# Altium footprint library 串口mcu板.PcbLib: 20 footprints (part 1 of 2)
Each footprint in its own frame and in the unit in brackets; x right, y up, seen from the top. Pads: shape width x height; smd on the part's side, far side on the other; paste and mask are expansions set on the pad; w line width, h text height; cw(c..) or ccw(c..) is an arc to the next point about the centre after c.
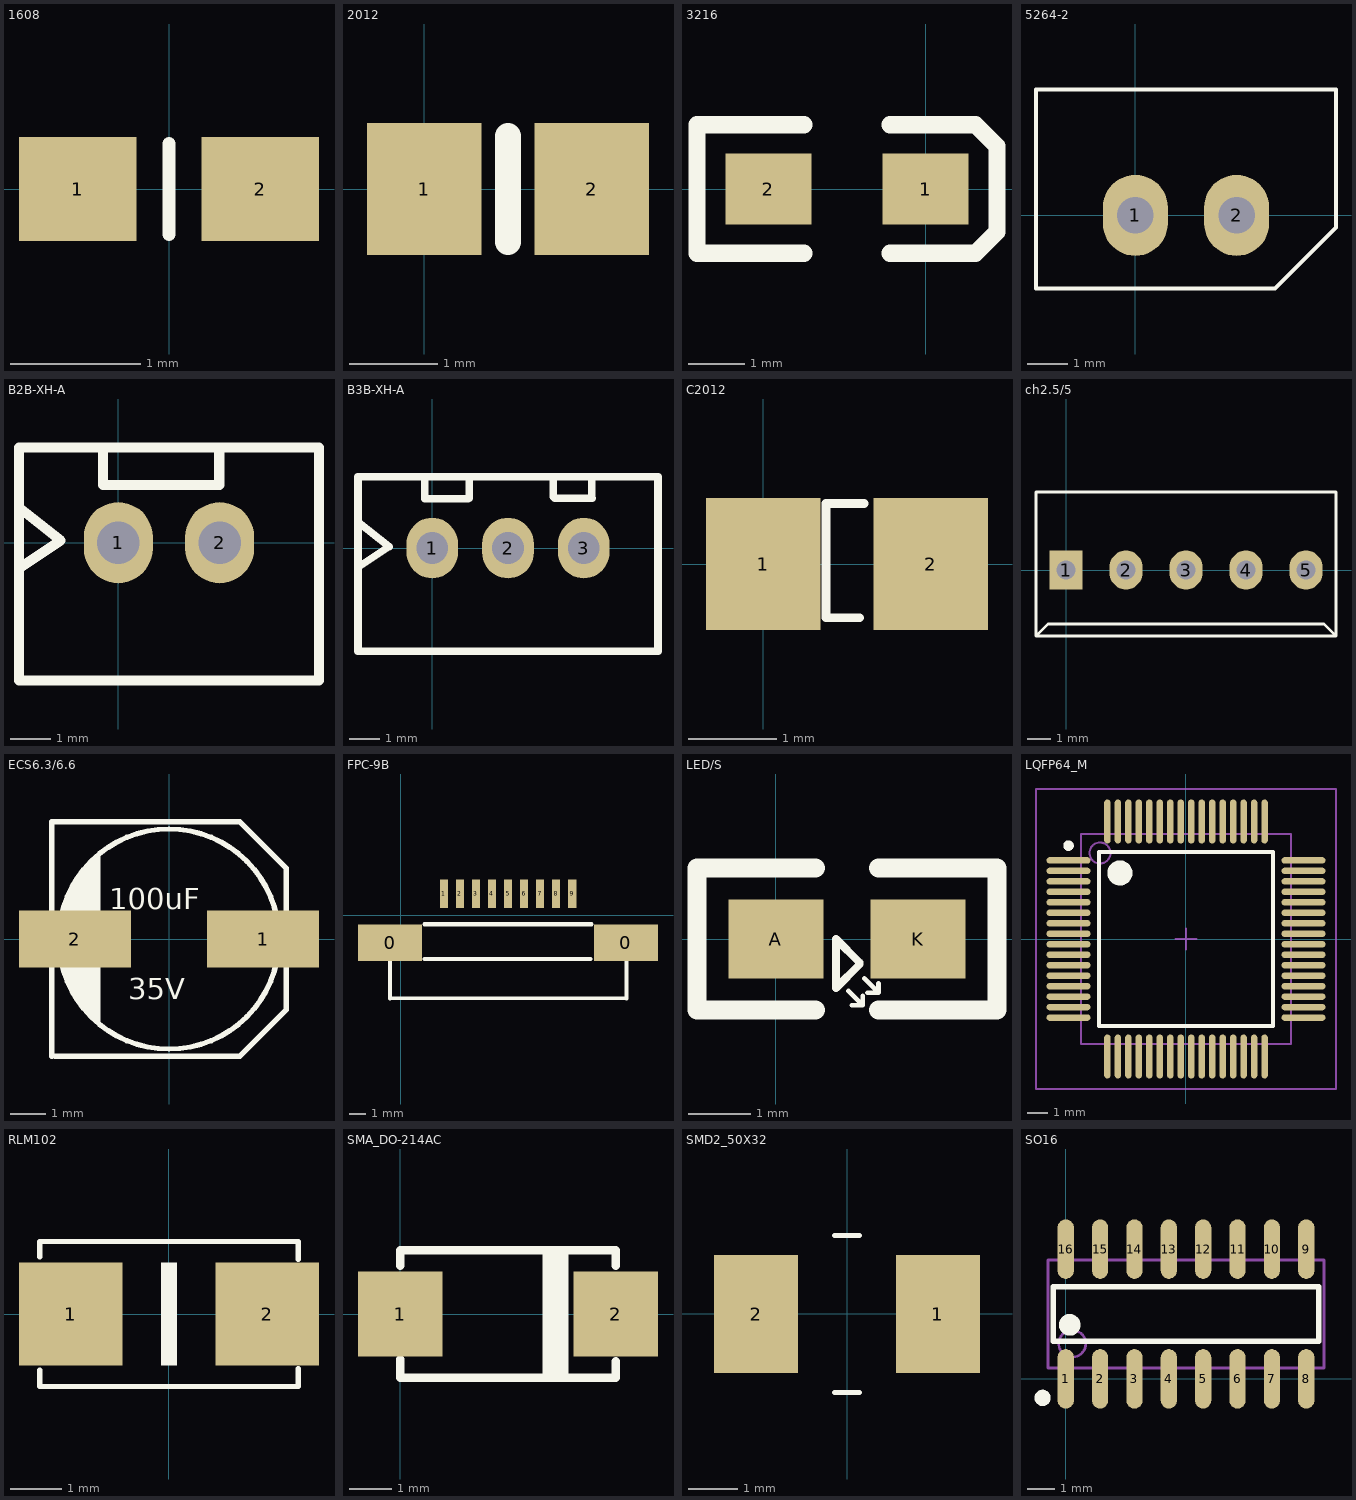
[diagram p0: the footprints below, top view; thin cyan lines are the x and y axes]

## 1608 [mm]
height 20
pads (2):
  rect 0.9x0.8 smd: 1(-0.7,0) 2(0.7,0)
Top Overlay:
  lines w0.1: 0,-0.35 0,0.35
3D body: height 0.45, standoff 0, extent -0.75,-0.394 0.75,0.406

## 2012 [mm]
pads (2):
  rect 1.3x1.5 smd: 1(0,0) 2(1.9,0)
Top Overlay:
  lines w0.3: 0.95,-0.6 0.95,0.6
3D body: height 0.45, standoff 0, extent -0.051,-0.625 1.949,0.625

## 3216 [mil]
height 43.31
pads (2):
  rect 60x50 smd: 1(0,0) 2(-110,0)
Top Overlay:
  lines w12: -85,-45 -160,-45 -160,45 -85,45 ; -25,-45 35,-45 50,-30 50,30 35,45 -25,45
3D body: height 62.99, standoff 0, extent -116.99,-30 8.99,33

## 5264-2 [mm]
height 20
pads (2):
  oval 1.6x2 hole 0.9: 1(0,0) 2(2.5,0)
Top Overlay:
  lines w0.1: 2.702,-1.8 3.45,-1.8 ; 3.45,-1.8 4.95,-0.3 4.95,3.1 -2.45,3.1 -2.45,-1.8 3.45,-1.8
3D body: height 5.95, standoff -3.45, extent -2.456,-1.821 4.944,3.079

## B2B-XH-A [mm]
height 20
pads (2):
  oval 1.7x2 hole 1.05: 1(0,0) 2(2.5,0)
Top Overlay:
  lines w0.25: -2.45,-0.635 -1.422,0.051 -2.45,0.864 ; -0.381,2.35 -0.381,1.422 2.489,1.422 2.489,2.35 ; -2.45,-3.4 4.95,-3.4 4.95,2.35 -2.45,2.35 -2.45,-3.4

## B3B-XH-A [mm]
height 20
pads (3):
  oval 1.7x2 hole 1.05: 1(0,0) 2(2.5,0) 3(5,0)
Top Overlay:
  lines w0.25: -2.45,-0.635 -1.422,0.051 -2.45,0.864 ; -0.254,2.35 -0.254,1.626 1.194,1.626 1.219,1.651 1.219,2.261 ; 3.988,2.235 3.988,1.702 4.039,1.651 5.283,1.651 5.258,1.676 5.258,2.235 ; -2.45,-3.4 -2.45,2.35 7.45,2.35 7.45,-3.4 -2.45,-3.4

## C2012 [mm]
pads (2):
  rect 1.3x1.5 smd: 1(0,0) 2(1.9,0)
Top Overlay:
  lines w0.1: 1.092,-0.61 0.711,-0.61 0.711,0.59 0.711,0.686 1.143,0.686
3D body: height 0.5, standoff 0, extent -0.06,-0.564 1.94,0.686

## ch2.5/5 [mil]
pads (5):
  rect 55x65 hole 32: 1(0,0)
  oval 55x65 hole 32: 2(100,0) 3(200,0) 4(300,0) 5(400,0)
Top Overlay:
  lines w5: -50,-110 450,-110 ; -50,-110 -50,130 450,130 450,-110 ; -50,-110 -30,-90 430,-90 450,-110
3D body: height 393.7, standoff 0, extent -45,-110 450,-90
3D body: height 118.11, standoff 0, extent -50,-110 450,130
3D body: height 393.7, standoff 0, extent 380.47,-19.64 419.69,19.65
3D body: height 393.7, standoff 0, extent 280.47,-19.64 319.69,19.65
3D body: height 393.7, standoff 0, extent 180.47,-19.64 219.69,19.65
3D body: height 393.7, standoff 0, extent 80.47,-19.64 119.69,19.65
3D body: height 393.7, standoff 0, extent -20,-20 19.21,19.29

## ECS6.3/6.6 [mm]
height 20
pads (2):
  rect 3.15x1.6 smd: 1(2.65,0) 2(-2.65,0)
Top Overlay:
  circle w0.15: c0,0 r3.1
  region: -2,2.311 -2.286,1.981 -2.515,1.676 -2.692,1.397 -2.845,1.092 -2.997,0.61 -3.048,0.33 -3.073,0.076 -3.073,-0.178 -3.023,-0.559 -2.921,-0.914 -2.819,-1.219 -2.591,-1.626 -2.489,-1.803 -2.311,-2.057 -2.108,-2.261 -1.981,-2.337 -1.981,2.337 -2.057,2.311 -2.184,2.184
  lines w0.15: -3.3,-3.3 -3.3,-0.5 ; -3.3,0.5 -3.3,3.3 2,3.3 3.3,2 3.3,0.5 ; -3.2,-3.3 2,-3.3 3.3,-2 3.3,-0.5 ; -2,-2.337 -2,2.311
  text "100uF" at -1.676,0.838 h0.6
  text "35V" at -1.143,-1.702 h0.6
3D body: height 5.2, standoff 0, extent -3.5,-3.199 3.5,3.401

## FPC-9B [mm]
pads (11):
  rect 4x2.3 smd: 0(-0.655,-1.708) 0(14.045,-1.708)
  rect 0.508x1.8 smd: 1(2.695,1.342) 2(3.695,1.342) 3(4.695,1.342) 4(5.695,1.342) 5(6.695,1.342) 6(7.695,1.342) 7(8.695,1.342) 8(9.695,1.342) 9(10.695,1.342)
Top Overlay:
  lines w0.254: -0.66,-5.196 -0.66,-2.896 ; -0.66,-5.182 14.072,-5.156 ; 1.495,-2.722 11.839,-2.722 ; 1.495,-0.558 11.895,-0.558 ; 14.072,-5.182 14.072,-2.882

## LED/S [mil]
height 39.37
pads (2):
  rect 60x50 smd: A(0,0) K(90,0)
Top Overlay:
  lines w3: 46,-33 55,-42 ; 48,-42 55,-42 ; 55,-36 55,-42 ; 56,-25 65,-34 ; 58,-34 65,-34 ; 65,-28 65,-34
  lines w5: 38,-31 38,0 53,-15 53,-16 38,-31
  lines w12: 25,-45 -50,-45 -50,45 25,45 ; 65,-45 140,-45 140,45 65,45
3D body: height 43.31, standoff 0, extent 8.94,-24.6 87.68,24.61

## LQFP64_M [mm]
height 1.75
pads (64):
  oval 2.1x0.3 smd: 1(-5.6,3.75) 2(-5.6,3.25) 3(-5.6,2.75) 4(-5.6,2.25) 5(-5.6,1.75) 6(-5.6,1.25) 7(-5.6,0.75) 8(-5.6,0.25) 9(-5.6,-0.25) 10(-5.6,-0.75) 11(-5.6,-1.25) 12(-5.6,-1.75) 13(-5.6,-2.25) 14(-5.6,-2.75) 15(-5.6,-3.25) 16(-5.6,-3.75) 33(5.6,-3.75) 34(5.6,-3.25) 35(5.6,-2.75) 36(5.6,-2.25) 37(5.6,-1.75) 38(5.6,-1.25) 39(5.6,-0.75) 40(5.6,-0.25) 41(5.6,0.25) 42(5.6,0.75) 43(5.6,1.25) 44(5.6,1.75) 45(5.6,2.25) 46(5.6,2.75) 47(5.6,3.25) 48(5.6,3.75)
  oval 0.3x2.1 smd: 17(-3.75,-5.6) 18(-3.25,-5.6) 19(-2.75,-5.6) 20(-2.25,-5.6) 21(-1.75,-5.6) 22(-1.25,-5.6) 23(-0.75,-5.6) 24(-0.25,-5.6) 25(0.25,-5.6) 26(0.75,-5.6) 27(1.25,-5.6) 28(1.75,-5.6) 29(2.25,-5.6) 30(2.75,-5.6) 31(3.25,-5.6) 32(3.75,-5.6) 49(3.75,5.6) 50(3.25,5.6) 51(2.75,5.6) 52(2.25,5.6) 53(1.75,5.6) 54(1.25,5.6) 55(0.75,5.6) 56(0.25,5.6) 57(-0.25,5.6) 58(-0.75,5.6) 59(-1.25,5.6) 60(-1.75,5.6) 61(-2.25,5.6) 62(-2.75,5.6) 63(-3.25,5.6) 64(-3.75,5.6)
Top Overlay:
  circle w0.6: c-3.15,3.15 r0.3
  circle w0.25: c-5.6,4.45 r0.125
  lines w0.2: -4.15,-4.15 4.15,-4.15 4.15,4.15 -4.15,4.15 -4.15,-4.15
Mechanical 13:
  circle w0.1: c-4.1,4.1 r0.5
  lines w0.1: -5,-5 5,-5 5,5 -5,5 -5,-5
Mechanical 15:
  lines w0.1: -0.5,0 0.5,0 ; 0,-0.5 0,0.5 ; -7.15,-7.15 7.15,-7.15 7.15,7.15 -7.15,7.15 -7.15,-7.15
3D body: height 1.6, standoff 0, extent -6,-6 6,6

## RLM102 [mm]
height 20
pads (2):
  rect 2x2 smd: 1(-1.9,0) 2(1.9,0)
Top Overlay:
  rectangle: -0.15,-1 0.15,1
  lines w0.1: -2.5,-1.081 -2.5,-1.4 2.5,-1.4 2.5,-1.056 ; -2.5,1.107 -2.5,1.4 2.5,1.4 2.5,1.056

## SMA_DO-214AC [mm] "5.08mm X 3.0mm SMD"
height 3
pads (2):
  rect 2x2 smd: 1(0,0) 2(5.08,0)
Top Overlay:
  rectangle: 3.353,-1.448 3.962,1.5
  lines w0.2: 0,-1.5 5.08,-1.5 ; 0,1.5 5.08,1.5
  lines w0.203: 0,-1.5 0,-1.067 ; 0,1.143 0,1.5 ; 5.08,-1.5 5.08,-1.118 ; 5.08,1.143 5.08,1.5
3D body: height 2, standoff 0, extent 3.353,-1.6 3.962,1.6
3D body: height 2, standoff 0, extent -0.025,-1.499 5.105,1.473

## SMD2_50X32 [mm]
height 20
pads (2):
  rect 1.7x2.4 smd: 1(1.85,0) 2(-1.85,0)
Top Overlay:
  lines w0.1: -0.25,-1.6 0.25,-1.6 ; -0.25,1.6 0.25,1.6
3D body: height 1.35, standoff 0, extent -2.511,-1.6 2.489,1.6

## SO16 [mm]
height 20
pads (16):
  oval 0.6x2.2 smd: 1(0,0) 2(1.27,0) 3(2.54,0) 4(3.81,0) 5(5.08,0) 6(6.35,0) 7(7.62,0) 8(8.89,0) 9(8.89,4.8) 10(7.62,4.8) 11(6.35,4.8) 12(5.08,4.8) 13(3.81,4.8) 14(2.54,4.8) 15(1.27,4.8) 16(0,4.8)
Top Overlay:
  circle w0.4: c0.145,2 r0.2
  circle w0.3: c-0.855,-0.7 r0.15
  lines w0.2: -0.455,1.4 9.345,1.4 9.345,3.4 -0.455,3.4 -0.455,1.4
Mechanical 13:
  circle w0.1: c0.24,1.305 r0.5
  lines w0.1: -0.66,0.405 9.55,0.405 9.55,4.395 -0.66,4.395 -0.66,0.405
3D body: height 1.45, standoff 0, extent -0.571,-0.521 9.411,5.385